# EAGLE library part NRF24L01+ (library NRF24l01+)
nRF24L01+ Transceiver Module
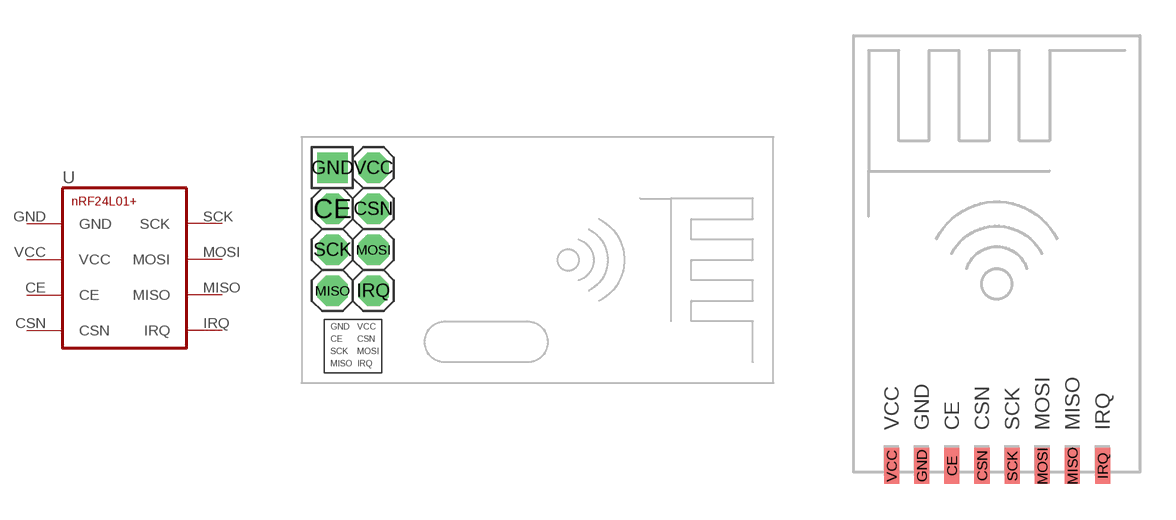
[diagram p0: symbol with the pads of NRF24L01+; footprints NRF24L01+, NRF24L01+MINI]

Designator prefix -

## NRF24L01+  [NRF24L01+]
CE  CE
CSN  CSN
GND  GND  pwr
IRQ  IRQ
MISO  MISO
MOSI  MOSI
SCK  SCK
VCC  VCC  pwr

## NRF24L01+NRF24L01+MINI  [NRF24L01+MINI]
Pads as for NRF24L01+

## Footprint NRF24L01+ (pad centres in mm)
drill 1.016 pad 1.88 octagon: CE -11.43,1.27; CSN -8.89,1.27; IRQ -8.89,-3.81; MISO -11.43,-3.81; MOSI -8.89,-1.27; SCK -11.43,-1.27; VCC -8.89,3.81
drill 1.016 pad 1.88 square: GND -11.43,3.81

## Footprint NRF24L01+MINI (pad centres in mm)
smd 0.635 x 1.524: CE -1.575,-7.861; CSN -0.305,-7.861; GND -2.845,-7.861; IRQ 4.775,-7.861; MISO 3.505,-7.861; MOSI 2.235,-7.861; SCK 0.965,-7.861; VCC -4.115,-7.861